# Altium footprint library RUH30H51M.PcbLib: 1 footprints
Each footprint in its own frame and in the unit in brackets; x right, y up, seen from the top. Pads: shape width x height; smd on the part's side, far side on the other; paste and mask are expansions set on the pad; w line width, h text height; cw(c..) or ccw(c..) is an arc to the next point about the centre after c.
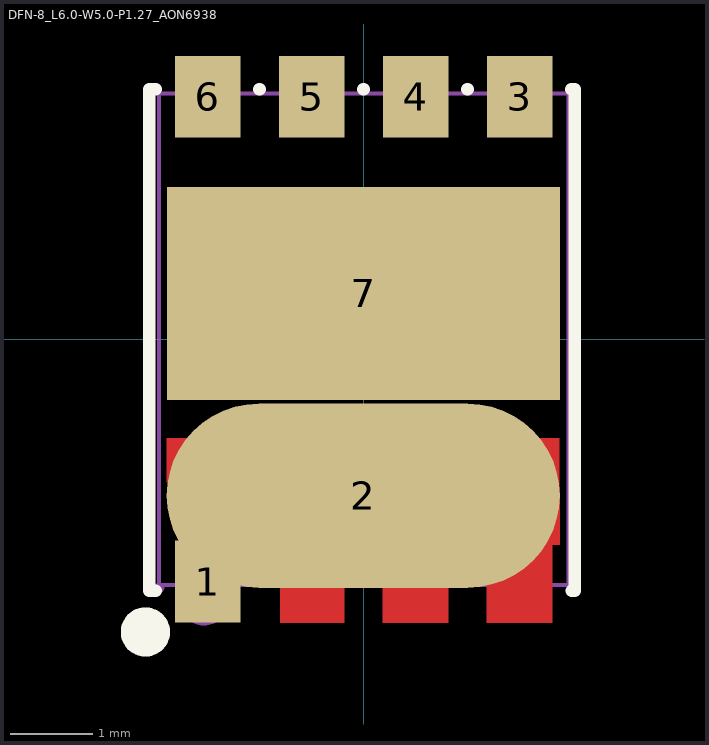
[diagram p0: the footprint, top view; thin cyan lines are the x and y axes]

## DFN-8_L6.0-W5.0-P1.27_AON6938 [mm]
pads (7):
  rect 0.8x1 smd: 1(-1.905,-2.96) 3(1.905,2.96) 4(0.635,2.96) 5(-0.635,2.96) 6(-1.905,2.96)
  oval 4.8x2.25 smd: 2(-0.005,-1.91)
  rect 4.8x2.6 smd: 7(0,0.56)
Top Layer:
  region: 2.39,-1.21 -2.405,-1.21 -2.405,-1.745 -1.02,-1.745 -1.02,-3.46 -0.235,-3.46 -0.235,-2.61 0.235,-2.61 0.235,-3.46 1.035,-3.46 1.035,-2.61 1.505,-2.61 1.505,-3.46 2.305,-3.46 2.305,-2.51 2.395,-2.51
Top Overlay:
  circle w0.3: c-2.665,-3.575 r0.15
  lines w0.152: -2.536,-3.07 -2.62,-3.07 -2.62,3.05 -2.536,3.05 ; -1.274,3.05 -1.266,3.05 ; -0.004,3.05 0.004,3.05 ; 1.266,3.05 1.274,3.05 ; 2.536,3.05 2.58,3.05 ; 2.541,-3.07 2.58,-3.07 2.58,3.01
Mechanical 6:
  circle w0.3: c-1.945,-3.195 r0.15
Mechanical 15:
  region: -2.435,-3.04 -2.454,-2.995 -2.5,-2.976 -2.546,-2.995 -2.564,-3.04 -2.546,-3.084 -2.5,-3.103 -2.454,-3.084
  region: -2.3,1.785 2.3,1.785 2.3,-0.665 -2.3,-0.665
  region: -1.695,-3.04 -2.115,-3.04 -2.115,-2.6 -1.695,-2.6
  region: -2.115,3.04 -1.695,3.04 -1.695,2.6 -2.115,2.6
  region: -0.845,3.04 -0.425,3.04 -0.425,2.6 -0.845,2.6
  region: 0.425,3.04 0.845,3.04 0.845,2.6 0.425,2.6
  region: 1.695,3.04 2.115,3.04 2.115,2.6 1.695,2.6
  region: -1.945,-1.205 1.94,-1.205 1.94,-2.61 2.12,-2.61 2.12,-3 1.685,-3 1.685,-2.61 0.89,-2.61 0.89,-3 0.38,-3 0.38,-2.61 -0.395,-2.61 -0.395,-3 -0.905,-3 -0.905,-2.615 -0.91,-2.61 -1.02,-2.61 -1.02,-1.625 -1.945,-1.625
  lines w0.051: -2.5,-3 2.5,-3 2.5,3 -2.5,3 -2.5,-3